# EAGLE library part GPS (library gps)
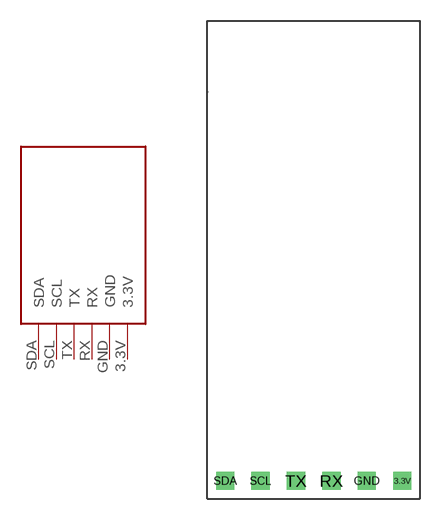
[diagram p0: symbol with the pads of GPS; footprint GPS]

Designator prefix -

## GPS  [GPS]
3.3V  3.3V
GND  GND
RX  RX
SCL  SCL
SDA  SDA
TX  TX

## Footprint GPS (pad centres in mm)
drill 0.8 square: 3.3V 15.24,1.27; GND 12.7,1.27; RX 10.16,1.27; SCL 5.08,1.27; SDA 2.54,1.27; TX 7.62,1.27